# Altium footprint library Amphenol.PcbLib: 3 footprints
Each footprint in its own frame and in the unit in brackets; x right, y up, seen from the top. Pads: shape width x height; smd on the part's side, far side on the other; paste and mask are expansions set on the pad; w line width, h text height; cw(c..) or ccw(c..) is an arc to the next point about the centre after c.
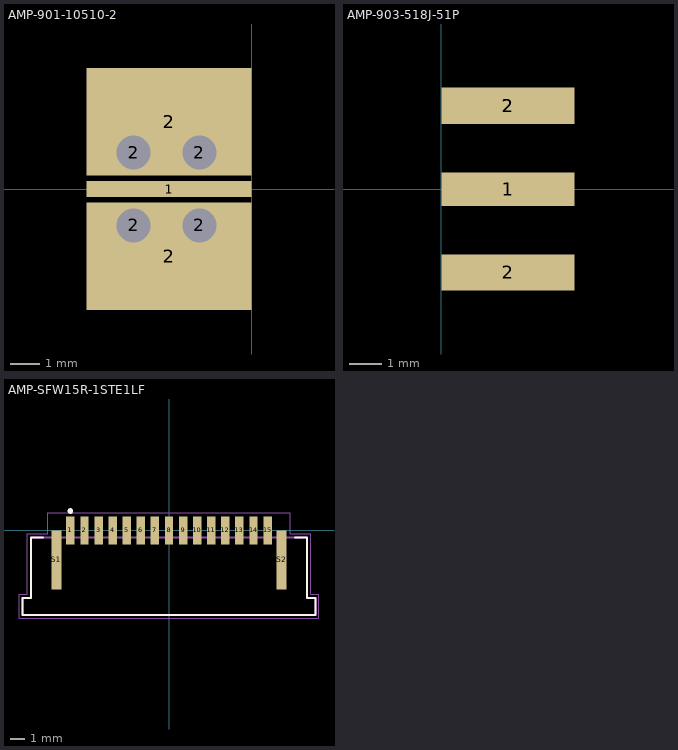
[diagram p0: the footprints below, top view; thin cyan lines are the x and y axes]

## AMP-901-10510-2 [mm] "SMA Connector Jack, Female Socket 50 Ohm Board Edge, End Launch; Through Hole, Right Angle Solder"
height 2.903
pads (7):
  rect 5.54x0.547 smd: 1(-2.77,0)
  round 0.762 hole 1.14: 2(-3.96,-1.22) 2(-3.96,1.22) 2(-1.75,-1.22) 2(-1.75,1.22)
  rect 5.54x3.61 smd: 2(-2.77,-2.26) 2(-2.77,2.26)
3D body "901-10510-2.STEP": height 3.22, standoff -2.97, extent -4.55,-3.134 9.53,3.134

## AMP-903-518J-51P [mil] "CONN SMB JACK STR 50OHM EDGE MNT"
height 5314.96
pads (4):
  rect 160x40 smd: 1(80,0)
  rect 160x43 smd: 2(80,-100) 2(80,100) 2(80,100.3)
3D body "903-518J-51P.stp": height 135, standoff -115, extent -275.04,-124.7 175,125.3

## AMP-SFW15R-1STE1LF [mm]
pads (17):
  rect 0.6x2 smd: 1(-7,0) 2(-6,0) 3(-5,0) 4(-4,0) 5(-3,0) 6(-2,0) 7(-1,0) 8(0,0) 9(1,0) 10(2,0) 11(3,0) 12(4,0) 13(5,0) 14(6,0) 15(7,0)
  rect 0.7x4.2 smd: S1(-8,-2.1) S2(8,-2.1)
Top Overlay:
  circle w0.2: c-7,1.373 r0.1
  lines w0.127: -8.946,-0.5 -9.8,-0.5 -9.8,-4.8 -10.4,-4.8 -10.4,-6 10.4,-6 10.4,-4.8 9.8,-4.8 9.8,-0.5 8.946,-0.5
Mechanical 4:
  lines w0.127: -10.4,-6 -10.4,-4.8 ; -10.4,-6 10.4,-6 ; -10.4,-6 -10.4,-4.8 ; -10.4,-6 10.4,-6 ; -10.4,-4.8 -9.8,-4.8 ; -10.4,-4.8 -9.8,-4.8 ; -9.8,-4.8 -9.8,-0.5 ; -9.8,-4.8 -9.8,-0.5 ; -9.8,-0.5 9.8,-0.5 ; -9.8,-0.5 9.8,-0.5 ; 9.8,-4.8 10.4,-4.8 ; 9.8,-4.8 9.8,-0.5 ; 9.8,-4.8 10.4,-4.8 ; 9.8,-4.8 9.8,-0.5 ; 10.4,-6 10.4,-4.8 ; 10.4,-6 10.4,-4.8
Mechanical 16:
  lines w0.05: -10.65,-6.25 -10.65,-4.55 -10.05,-4.55 -10.05,-0.25 -8.6,-0.25 -8.6,1.25 8.6,1.25 8.6,-0.25 10.05,-0.25 10.05,-4.55 10.65,-4.55 10.65,-6.25 -10.65,-6.25
3D body "ssfw15r_1_3st_lf.stp": height 2.71, standoff 0.01, extent -10.4,-5.715 10.4,0.785